# Altium integrated library Фильтры.IntLib: 2 symbols
Pins are listed as number, name and electrical type; pins without a type are passive.

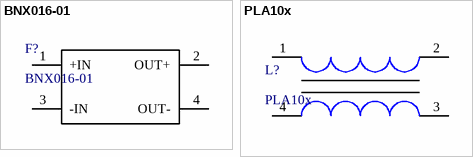
[diagram p0: symbols BNX016-01 to PLA10x]

## BNX016-01
designator F?
chipdip: 594347972
footprint BNX016-01
pins: 1 +IN, 2 OUT+, 3 -IN, 4 OUT-

## PLA10x
designator L?
chipdip: 93874935
footprint PLA10x
footprint PCBComponent_1
pins: 1, 2, 3, 4